# Altium footprint library syhaunguyen.PcbLib: 329 footprints (part 10 of 21)
Each footprint in its own frame and in the unit in brackets; x right, y up, seen from the top. Pads: shape width x height; smd on the part's side, far side on the other; paste and mask are expansions set on the pad; w line width, h text height; cw(c..) or ccw(c..) is an arc to the next point about the centre after c.
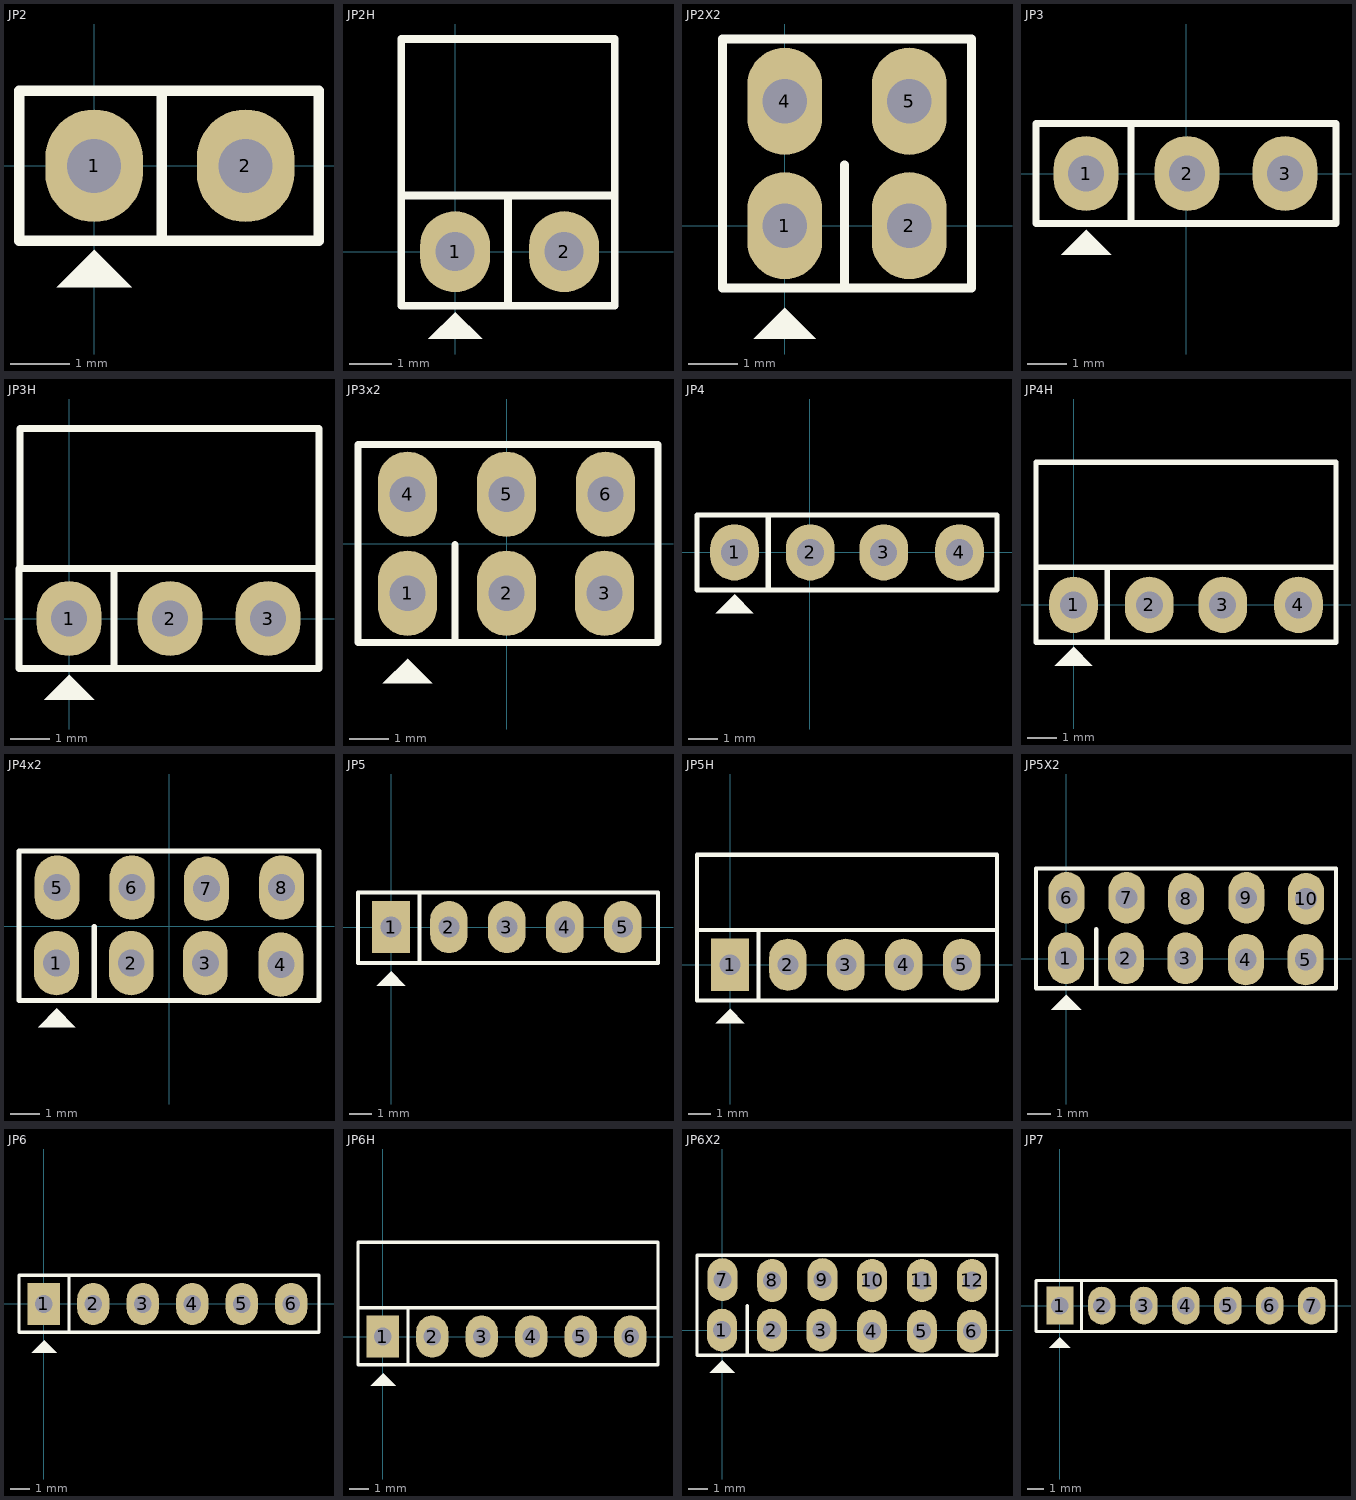
[diagram p9: the footprints below, top view; thin cyan lines are the x and y axes]

## JP2 [mil]
pads (2):
  oval 65x75 hole 36: 1(0,0) 2(101,0)
Top Overlay:
  region: 0,-56 -25,-81 25,-81
  lines w7: 45,-50 45,49 ; -50,-50 150,-50 150,50 -50,50 -50,-50
3D body: height 323.44, standoff -117.51, extent -48.03,-50 148.03,48.43

## JP2H [mil]
pads (2):
  oval 65x75 hole 36: 1(0,0) 2(101,0)
Top Overlay:
  region: 0,-56 -25,-81 25,-81
  lines w7: 49,-50 49,49 ; 148,54 148,197 -50,197 -50,52 ; -50,52 148,52 148,-50 -50,-50 -50,52
3D body: height 99.03, standoff -93.89, extent -44.13,-14.29 148,424.29

## JP2X2 [mil]
pads (4):
  oval 60x86 hole 36: 1(0,0) 2(100,0) 4(0,100) 5(100,100)
Top Overlay:
  region: 0,-66 -25,-91 25,-91
  lines w7: 48,-50 48,49 ; -50,-50 -50,50 -50,150 150,150 150,-50 -50,-50
3D body: height 335.25, standoff -117.51, extent -49.99,-49.99 150.01,150.01

## JP3 [mil] "Jumper 3"
height 200
pads (3):
  oval 65x75 hole 36: 1(-100,0) 2(1,0) 3(99,0)
Top Overlay:
  region: -100,-56 -125,-81 -75,-81
  lines w7: -55,-50 -55,49 ; -150,-50 -150,50 150,50 150,-50 -150,-50
3D body: height 355.04, standoff -124.88, extent -150,-59.96 150,55

## JP3H [mil]
pads (3):
  oval 65x75 hole 36: 1(0,0) 2(101,0) 3(199,0)
Top Overlay:
  region: 0,-56 -25,-81 25,-81
  lines w7: 45,-50 45,49 ; -50,50 -49,50 -49,190 250,190 250,50 ; -50,50 250,50 ; -50,50 -50,-50 250,-50 250,50
3D body: height 99.03, standoff -93.89, extent -47.07,-14.96 245.06,423.62

## JP3x2 [mil] "Connector 3x2"
height 200
pads (6):
  oval 60x86 hole 36: 1(-100,-50) 2(0,-50) 3(99,-50) 4(-100,50) 5(0,50) 6(100,50)
Top Overlay:
  region: -100,-116 -125,-141 -75,-141
  lines w7: -52,-100 -52,-1 ; -150,-100 153,-100 153,100 -150,100 -150,0 -150,-100
3D body: height 335.24, standoff -117.51, extent -149.99,-100 150.01,100

## JP4 [mil] "Jumper 4"
height 200
pads (4):
  oval 65x75 hole 36: 1(-100,0) 2(1,0) 3(99,0) 4(200,0)
Top Overlay:
  region: -100,-56 -125,-81 -75,-81
  lines w7: -55,-50 -55,49 ; -150,-50 -150,50 250,50 250,-50 -150,-50
3D body: height 323.44, standoff -117.51, extent -148.03,-48.43 248.03,50

## JP4H [mil]
pads (4):
  oval 65x75 hole 36: 1(0,0) 2(101,0) 3(199,0) 4(300,0)
Top Overlay:
  region: 0,-56 -25,-81 25,-81
  lines w7: 45,-50 45,49 ; -50,50 350,50 ; -50,50 -50,-50 350,-50 350,50 ; -50,50 -50,190 350,190 350,50
3D body: height 99.03, standoff -93.89, extent -46.06,-14.96 346.07,423.63

## JP4x2 [mil] "Connector 4x2"
height 200
pads (8):
  oval 60x86 hole 36: 1(-150.5,-49.5) 2(-50.5,-49.5) 3(48.5,-49.5) 4(149.5,-51.5) 5(-149.5,51.5) 6(-49.5,51.5) 7(50,50) 8(150.5,51.5)
Top Overlay:
  region: -150,-110 -175,-135 -125,-135
  lines w7: -100,-99 -100,-1 ; -200.5,-99.5 200.5,-99.5 200.5,100.5 -200.5,100.5 -200.5,0.5 -200.5,-99.5
3D body: height 335.25, standoff -117.51, extent -196.99,-99.99 203.01,100.01

## JP5 [mil] "JP5"
height 200
pads (5):
  rect 65x90 hole 36: 1(0,0)
  oval 65x90 hole 36: 2(100,0) 3(200,0) 4(300,0) 5(400,0)
Top Overlay:
  region: 0,-76 -25,-101 25,-101
  lines w7: 49,-60 49,58 ; -57,-62 -57,60 461,60 461,-62 -57,-62
3D body: height 323.43, standoff -117.51, extent -48.03,-53.43 448.03,45

## JP5H [mil]
pads (5):
  rect 65x90 hole 36: 1(0,0)
  oval 65x90 hole 36: 2(100,0) 3(200,0) 4(300,0) 5(400,0)
Top Overlay:
  region: 0,-76 -25,-101 25,-101
  lines w7: 49,-60 49,58 ; -57,60 -57,-62 461,-62 461,60 ; -57,60 461,60 ; -57,60 -57,190 461,190 461,60
3D body: height 99.03, standoff -93.89, extent -46.06,-14.96 446.07,423.63

## JP5X2 [mil]
pads (10):
  oval 60x86 hole 36: 1(-0.5,0.5) 2(99.5,0.5) 3(198.5,0.5) 4(299.5,-1.5) 5(399.5,-1.5) 6(0.5,101.5) 7(100.5,101.5) 8(200,100) 9(300.5,101.5) 10(400,100)
Top Overlay:
  region: 0,-60 -25,-85 25,-85
  lines w7: 50,-49 50,49 ; -50.5,-49.5 450,-49.5 450,150.5 -50.5,150.5 -50.5,50.5 -50.5,-49.5
3D body: height 335.25, standoff -117.51, extent -49.99,-49.99 450.01,150.01

## JP6 [mil] "JP6"
height 200
pads (6):
  rect 65x85 hole 36: 1(0,0)
  oval 65x85 hole 36: 2(100,0) 3(200,0) 4(300,0) 5(400,0) 6(500,0)
Top Overlay:
  region: 1,-74 -24,-99 26,-99
  lines w7: 51,-57 51,56 ; -50,-57 556,-57 556,58 -50,58 -50,-57
3D body: height 323.43, standoff -117.51, extent -48.03,-50 548.03,48.43

## JP6H [mil]
pads (6):
  rect 65x85 hole 36: 1(0,0)
  oval 65x85 hole 36: 2(100,0) 3(200,0) 4(300,0) 5(400,0) 6(500,0)
Top Overlay:
  region: 1,-74 -24,-99 26,-99
  lines w7: 51,-57 51,56 ; -50,58 -50,190 556,190 556,58 ; -50,58 556,58 ; -50,58 -50,-57 556,-57 556,58
3D body: height 99.03, standoff -93.89, extent -46.06,-14.96 546.07,423.63

## JP6X2 [mil]
pads (12):
  oval 60x86 hole 36: 1(-0.5,0.5) 2(99.5,0.5) 3(198.5,0.5) 4(299.5,-1.5) 5(399.5,-1.5) 6(499.5,-1.5) 7(0.5,101.5) 8(100,100) 9(200.5,101.5) 10(300,100) 11(400,100) 12(500,100)
Top Overlay:
  region: 0,-60 -25,-85 25,-85
  lines w7: 50,-49 50,49 ; -50.5,-49.5 -50.5,50.5 -50.5,150.5 550,150.5 550,-49.5 -50.5,-49.5
3D body: height 335.24, standoff -117.51, extent -49.99,-49.99 550.01,150.01

## JP7 [mil] "JP7"
height 200
pads (7):
  rect 65x90 hole 42: 1(0,0)
  oval 65x90 hole 42: 2(100,0) 3(200,0) 4(300,0) 5(400,0) 6(500,0) 7(600,0)
Top Overlay:
  region: 0,-75 -25,-100 25,-100
  lines w7: 51,-58 51,60 ; -57,-62 -57,60 658,60 658,-62 -57,-62
3D body: height 323.44, standoff -117.51, extent -50,-49.21 646.06,49.21